# Altium schematic symbol library SW 2.SchLib: 1 symbol
Pins are listed as number, name and electrical type; pins without a type are passive.

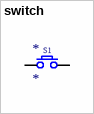
[diagram p0: symbol switch]

## switch
designator *
Switch Tactile N.O. SPST Round Button Gull Wing 0.05A 12VDC 1.5N SMD Embossed T/R; Manufacturer: Omron; Manufacturer Part Number: B3U-1100P-B; Mechanical Life: 200000Cycles; Voltage Rating (DC): 12V; Current Rating: 50mA; Illumination Type: Non-Illuminated; Switch Travel: 0.15mm; Switch Function: Off-Mom; Contact Resistance: 100mR; Actuator Type: Standard; Actuator Length: 0.4mm; Ratings: Dust Proof; Supplier 1: Digi-Key; RoHS: Yes; Category: Tactile Switches; Pricing 1: 1=0.96000, 10=0.92700, 25=0.86640, 100=0.75220, 250=0.68448, 500=0.63456, 1000=0.62388 (USD); Mount: Surface Mount; Weight: 0.022g; Contact Plating: Silver; Color: Black; Min Operating Temperature: -25°C; Max Operating Temperature: 70°C; Packaging: Tape and Reel; Package Quantity: 3500; Operating Force: 1.5N; Throw Configuration: SPST; Max Voltage Rating (DC): 12V; Termination: Gull Wing; Electrical Life: 200000Cycles; Orientation: Straight; Max Current Rating: 50mA; Series: B3U; Contact Current Rating: 50mA; Length: 4mm; Depth: 3.15mm; RoHS Compliant: Yes; ComponentLink1URL: https://datasheet.ciiva.com/5283/en-b3u-3615-5283505.pdf?src-supplier=Mouser; ComponentLink1Description: https://datasheet.ciiva.com/5283/en-b3u-3615-5283505.pdf?src-supplier=Mouser; ComponentLink2URL: https://datasheet.ciiva.com/16861/70176037-16861973.pdf?src-supplier=Allied+Electronics; ComponentLink2Description: https://datasheet.ciiva.com/16861/70176037-16861973.pdf?src-supplier=Allied+Electronics; ComponentLink3URL: https://datasheet.ciiva.com/2900/b3u-1110-2900038.pdf?src-supplier=Digi-Key; ComponentLink3Description: https://datasheet.ciiva.com/2900/b3u-1110-2900038.pdf?src-supplier=Digi-Key; ComponentLink4URL: https://datasheet.ciiva.com/2900/b3u-1110-2900039.pdf?src-supplier=Digi-Key; ComponentLink4Description: https://datasheet.ciiva.com/2900/b3u-1110-2900039.pdf?src-supplier=Digi-Key; ComponentLink5URL: https://datasheet.ciiva.com/2900/b3u-1110-2900040.pdf?src-supplier=Digi-Key; ComponentLink5Description: https://datasheet.ciiva.com/2900/b3u-1110-2900040.pdf?src-supplier=Digi-Key; ComponentLink6URL: https://datasheet.ciiva.com/30255/en-b3u-30255499.pdf?src-supplier=Onlinecomponents.com; ComponentLink6Description: https://datasheet.ciiva.com/30255/en-b3u-30255499.pdf?src-supplier=Onlinecomponents.com
footprint Switch SMD 2 chân
pins: 1, 2
text: S1